# EAGLE library part ATTINY402 (library josh)
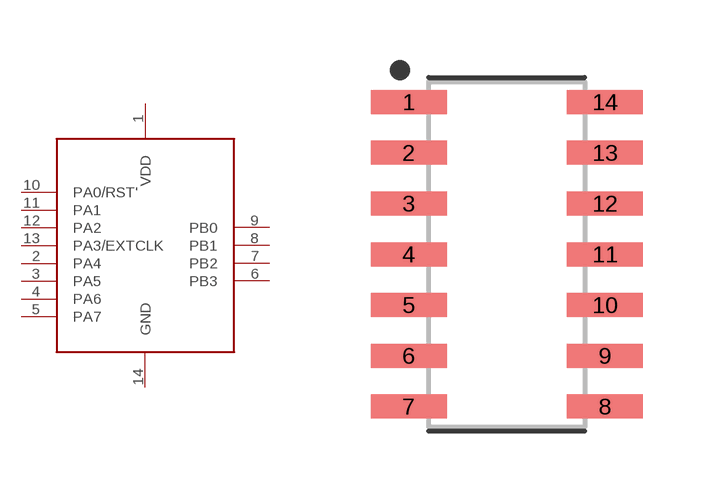
[diagram p3: symbol with the pads of SOIC127P600X175-14N; footprint SOIC127P600X175-14N]

Designator prefix -

## ATTINY402SOIC14  [SOIC127P600X175-14N]
1  VDD  pwr
2  PA4
3  PA5
4  PA6
5  PA7
6  PB3
7  PB2
8  PB1
9  PB0
10  PA0/RST'
11  PA1
12  PA2
13  PA3/EXTCLK
14  GND  pwr

## Footprint SOIC127P600X175-14N (pad centres in mm)
14-SOIC, 1.27 mm pitch, 6.00 mm span, 8.65 X 3.90 X 1.75 mm body 14-pin SOIC package with 1.27 mm pitch, 6.00 mm span with body size 8.65 X 3.90 X 1.75 mm
smd 1.901 x 0.599: 1 -2.455,3.81; 2 -2.455,2.54; 3 -2.455,1.27; 4 -2.455,0; 5 -2.455,-1.27; 6 -2.455,-2.54; 7 -2.455,-3.81; 8 2.455,-3.81; 9 2.455,-2.54; 10 2.455,-1.27; 11 2.455,0; 12 2.455,1.27; 13 2.455,2.54; 14 2.455,3.81